# Altium footprint library 4G1.PcbLib: 32 footprints (part 2 of 2)
Each footprint in its own frame and in the unit in brackets; x right, y up, seen from the top. Pads: shape width x height; smd on the part's side, far side on the other; paste and mask are expansions set on the pad; w line width, h text height; cw(c..) or ccw(c..) is an arc to the next point about the centre after c.
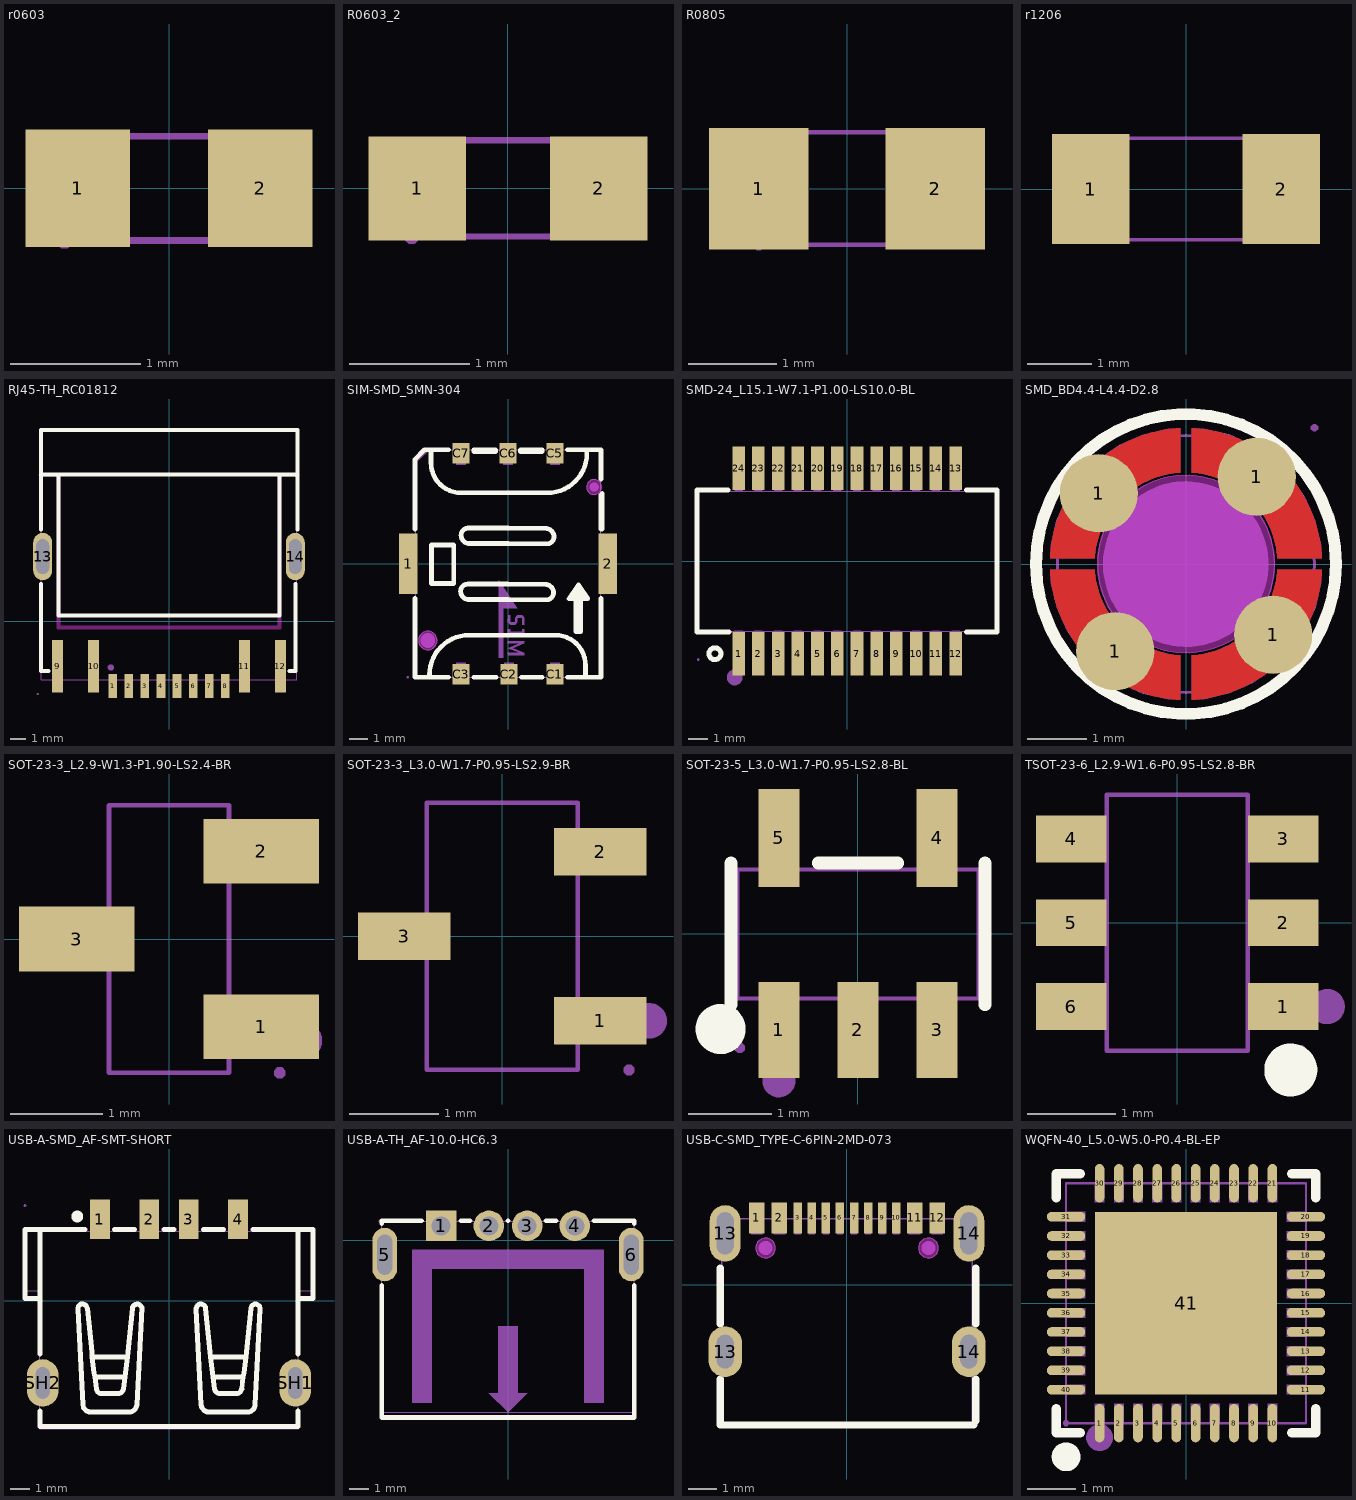
[diagram p1: the footprints below, top view; thin cyan lines are the x and y axes]

## r0603 [mm]
pads (2):
  rect 0.8x0.9 smd: 1(-0.7,0) 2(0.7,0)
Mechanical 15:
  region: 0.8,-0.4 0.8,0.4 0.5,0.4 0.5,-0.4
  region: -0.8,-0.4 -0.8,0.4 -0.5,0.4 -0.5,-0.4
  region: -0.86,-0.4 -0.86,-0.375 -0.825,-0.34 -0.775,-0.34 -0.74,-0.375 -0.74,-0.4 -0.74,-0.425 -0.775,-0.46 -0.825,-0.46 -0.86,-0.425 -0.86,-0.4
  lines w0.051: -0.8,-0.4 0.8,-0.4 0.8,0.4 -0.8,0.4 -0.8,-0.4

## R0603_2 [mm]
pads (2):
  rect 0.806x0.864 smd paste-100 mask+0.051: 1(-0.753,0) 2(0.753,0)
Top Paste:
  region: -0.355,0.4 -0.355,0.172 -0.735,0.172 -0.735,-0.158 -0.355,-0.158 -0.355,-0.4 -0.405,-0.45 -1.195,-0.45 -1.245,-0.4 -1.245,0.4 -1.195,0.45 -0.405,0.45
  region: 1.195,0.45 0.395,0.45 0.345,0.4 0.345,0.172 0.715,0.172 0.715,-0.158 0.345,-0.158 0.345,-0.4 0.395,-0.45 1.195,-0.45 1.245,-0.4 1.245,0.4
Mechanical 15:
  region: 0.8,-0.4 0.8,0.4 0.5,0.4 0.5,-0.4
  region: -0.8,-0.4 -0.8,0.4 -0.5,0.4 -0.5,-0.4
  region: -0.74,-0.4 -0.74,-0.375 -0.775,-0.34 -0.825,-0.34 -0.86,-0.375 -0.86,-0.4 -0.86,-0.425 -0.825,-0.46 -0.775,-0.46 -0.74,-0.425 -0.74,-0.4
  lines w0.051: -0.8,-0.4 0.8,-0.4 0.8,0.4 -0.8,0.4 -0.8,-0.4

## R0805 [mm]
pads (2):
  rect 1.133x1.377 smd paste-100 mask+0.051: 1(-1,0) 2(1,0)
Top Paste:
  region: 0.45,-0.64 0.45,-0.22 0.895,-0.22 0.895,0.23 0.455,0.23 0.45,0.64 0.5,0.69 1.65,0.69 1.7,0.64 1.7,-0.64 1.65,-0.69 0.5,-0.69
  region: -1.7,-0.64 -1.7,0.64 -1.65,0.69 -0.5,0.69 -0.45,0.64 -0.445,0.23 -0.895,0.23 -0.895,-0.22 -0.455,-0.22 -0.45,-0.64 -0.5,-0.69 -1.65,-0.69
Mechanical 15:
  region: 1,-0.637 1,0.637 0.6,0.637 0.6,-0.637
  region: -1,-0.637 -1,0.637 -0.6,0.637 -0.6,-0.637
  region: -0.94,-0.638 -0.94,-0.613 -0.975,-0.578 -1.025,-0.578 -1.06,-0.613 -1.06,-0.638 -1.06,-0.662 -1.025,-0.698 -0.975,-0.698 -0.94,-0.662 -0.94,-0.638
  lines w0.051: -1,-0.637 1,-0.637 1,0.637 -1,0.637 -1,-0.637

## r1206 [mm]
pads (2):
  rect 1.208x1.701 smd paste-100 mask+0.051: 1(-1.479,0) 2(1.479,0)
Top Paste:
  region: -0.875,-0.75 -0.875,-0.389 -0.975,-0.289 -1.186,-0.289 -1.286,-0.189 -1.286,0.189 -1.186,0.289 -0.975,0.289 -0.875,0.389 -0.875,0.75 -0.975,0.85 -1.983,0.85 -2.083,0.75 -2.083,-0.75 -1.983,-0.85 -0.975,-0.85
  region: 0.875,-0.75 0.875,-0.389 0.975,-0.289 1.186,-0.289 1.286,-0.189 1.286,0.189 1.186,0.289 0.975,0.289 0.875,0.389 0.875,0.75 0.975,0.85 1.983,0.85 2.083,0.75 2.083,-0.75 1.983,-0.85 0.975,-0.85
Mechanical 15:
  region: 1.55,-0.788 1.55,0.788 1.1,0.788 1.1,-0.788
  region: -1.55,-0.788 -1.55,0.788 -1.1,0.788 -1.1,-0.788
  region: -1.55,-0.847 -1.575,-0.847 -1.61,-0.812 -1.61,-0.763 -1.575,-0.727 -1.55,-0.727 -1.525,-0.727 -1.49,-0.763 -1.49,-0.812 -1.525,-0.847 -1.55,-0.847
  lines w0.051: -1.55,-0.788 1.55,-0.788 1.55,0.788 -1.55,0.788 -1.55,-0.788

## RJ45-TH_RC01812 [mm]
pads (14):
  rect 0.55x1.5 smd paste-100 mask+0.05: 1(-3.57,-4.1) 2(-2.55,-4.1) 3(-1.53,-4.1) 4(-0.51,-4.1) 5(0.51,-4.1) 6(1.53,-4.1) 7(2.55,-4.1) 8(3.57,-4.1)
  rect 0.7x3.3 smd paste-100 mask+0.05: 9(-7.06,-2.845) 10(-4.77,-2.845) 11(4.77,-2.845) 12(7.06,-2.845)
  oval 1.2x3 hole 0.8 slot 2.2 at 90 deg paste-2539.97 mask+0.05: 13(-8,4.1) 14(8,4.1)
Top Overlay:
  lines w0.254: -8.1,2.374 -8.1,-3.139 -7.641,-3.139 ; -8.1,5.826 -8.1,12.111 8.1,12.111 ; -8.1,9.284 8.128,9.284 ; -6.985,9.284 -6.985,0.381 7.007,0.381 7.007,9.284 ; 7.641,-3.139 8,-3.139 8,2.369 ; 8.128,5.823 8.128,12.111
Top Paste:
  drawing of 14 lines, arcs and shapes, not listed
Keep-Out Layer:
  lines w0.254: -6.985,-0.381 6.985,-0.381 ; -6.985,-0.381 -6.985,9.271 ; -6.985,-0.381 6.985,-0.381 ; -6.985,-0.381 -6.985,9.271 ; -6.985,9.271 -8.128,9.271 -6.985,9.271 ; 6.985,-0.381 6.985,9.271 ; 6.985,-0.381 6.985,9.271 ; 6.985,9.271 8.128,9.271 6.985,9.271
Mechanical 6:
  circle w0.2: c-3.683,-2.921 r0.1
Mechanical 15:
  region: 6.81,-1.35 7.31,-1.35 7.31,-3.35 6.81,-3.35
  region: 4.52,-1.35 5.02,-1.35 5.02,-3.35 4.52,-3.35
  region: -5.02,-1.35 -4.52,-1.35 -4.52,-3.35 -5.02,-3.35
  region: -7.31,-1.35 -6.81,-1.35 -6.81,-3.35 -7.31,-3.35
  region: 3.37,-3.6 3.77,-3.6 3.77,-4.6 3.37,-4.6
  region: 2.35,-3.6 2.75,-3.6 2.75,-4.6 2.35,-4.6
  region: 1.33,-3.6 1.73,-3.6 1.73,-4.6 1.33,-4.6
  region: 0.31,-3.6 0.71,-3.6 0.71,-4.6 0.31,-4.6
  region: -0.71,-3.6 -0.31,-3.6 -0.31,-4.6 -0.71,-4.6
  region: -1.73,-3.6 -1.33,-3.6 -1.33,-4.6 -1.73,-4.6
  region: -2.75,-3.6 -2.35,-3.6 -2.35,-4.6 -2.75,-4.6
  region: -3.77,-3.6 -3.37,-3.6 -3.37,-4.6 -3.77,-4.6
  region: -8.32,3.4 -8.32,4.8 -7.68,4.8 -7.68,3.4
  region: 7.68,3.4 7.68,4.8 8.32,4.8 8.32,3.4
  region: -8.26,-4.6 -8.26,-4.625 -8.295,-4.66 -8.345,-4.66 -8.38,-4.625 -8.38,-4.6 -8.38,-4.575 -8.345,-4.54 -8.295,-4.54 -8.26,-4.575 -8.26,-4.6
  lines w0.051: -8.1,-3.7 -8.1,12.1 8.1,12.1 8.1,-3.7 -8.1,-3.7

## SIM-SMD_SMN-304 [mm]
pads (8):
  rect 1x3.29 smd: 1(-5.39,0) 2(5.39,0)
  rect 0.9x1.1 smd: C1(2.54,-5.975) C2(0.051,-5.975) C3(-2.54,-5.975) C5(2.54,5.975) C6(0,5.975) C7(-2.54,5.975)
Top Overlay:
  region: 3.81,-1.143 3.302,-1.905 3.683,-1.905 3.683,-3.683 3.937,-3.683 3.937,-1.905 4.318,-1.905
  lines w0.254: -5.031,-1.876 -5.031,-6.149 -3.221,-6.149 ; -5.031,1.876 -5.031,5.655 -4.524,6.162 -3.221,6.162 ; -4.242,-5.999 cw(c-2.108,-5.999) -2.108,-3.866 ; -4.166,6.162 -4.166,5.456 ccw(c-2.54,5.456) -2.54,3.83 2.108,3.83 ; -2.083,-3.866 2.565,-3.866 cw(c2.565,-5.491) 4.191,-5.491 4.191,-6.101 ; -1.859,-6.149 -0.63,-6.149 ; -1.859,6.071 -0.681,6.071 ; -1.859,6.162 -0.681,6.162 ; -0.076,-1.954 2.083,-1.954 ccw(c2.083,-1.573) 2.464,-1.573 ccw(c2.006,-1.573) 2.006,-1.116 -0.076,-1.116 ; -0.051,1.075 2.108,1.075 ccw(c2.108,1.456) 2.489,1.456 ccw(c2.032,1.456) 2.032,1.913 -0.051,1.913 ; -0.025,-1.942 -2.108,-1.942 cw(c-2.108,-1.485) -2.565,-1.485 cw(c-2.184,-1.485) -2.184,-1.104 -0.025,-1.104 ; 0,1.087 -2.083,1.087 cw(c-2.083,1.544) -2.54,1.544 cw(c-2.159,1.544) -2.159,1.925 0,1.925 ; 0.681,6.071 1.859,6.071 ; 0.681,6.162 1.859,6.162 ; 0.732,-6.149 1.859,-6.149 ; 2.134,3.83 ccw(c2.134,5.964) 4.267,5.964 4.267,6.162 ; 3.221,-6.149 5.031,-6.149 5.031,-1.876 ; 3.221,6.162 5.031,6.162 5.031,4.575 ; 5.031,1.876 5.031,3.716 ; 5.105,1.871 5.105,3.794 ; -4.134,-1.069 -4.134,1.014 -2.94,1.014 -2.94,-1.069 -4.134,-1.069 ; 3.302,-1.905 3.683,-1.905 3.683,-3.683 3.937,-3.683 3.937,-1.905 4.318,-1.905 3.81,-1.143 3.302,-1.905
Keep-Out Layer:
  board cut-out: 5.06,4.145 5.06,4.066 4.999,3.919 4.887,3.806 4.74,3.745 4.58,3.745 4.433,3.806 4.321,3.919 4.26,4.066 4.26,4.145 4.26,4.225 4.321,4.372 4.433,4.484 4.58,4.545 4.74,4.545 4.887,4.484 4.999,4.372 5.06,4.225 5.06,4.145
  board cut-out: -3.84,-4.155 -3.84,-4.255 -3.916,-4.438 -4.057,-4.579 -4.241,-4.655 -4.439,-4.655 -4.623,-4.579 -4.764,-4.438 -4.84,-4.255 -4.84,-4.155 -4.84,-4.056 -4.764,-3.872 -4.623,-3.731 -4.439,-3.655 -4.241,-3.655 -4.057,-3.731 -3.916,-3.872 -3.84,-4.056 -3.84,-4.155
Keep-Out Layer:
  circle w0.005: c4.66,4.145 r0.4
  circle w0.005: c-4.34,-4.155 r0.5
  region: 5.06,4.145 5.06,4.066 4.999,3.919 4.887,3.806 4.74,3.745 4.58,3.745 4.433,3.806 4.321,3.919 4.26,4.066 4.26,4.145 4.26,4.225 4.321,4.372 4.433,4.484 4.58,4.545 4.74,4.545 4.887,4.484 4.999,4.372 5.06,4.225 5.06,4.145
  region: -3.84,-4.155 -3.84,-4.255 -3.916,-4.438 -4.057,-4.579 -4.241,-4.655 -4.439,-4.655 -4.623,-4.579 -4.764,-4.438 -4.84,-4.255 -4.84,-4.155 -4.84,-4.056 -4.764,-3.872 -4.623,-3.731 -4.439,-3.655 -4.241,-3.655 -4.057,-3.731 -3.916,-3.872 -3.84,-4.056 -3.84,-4.155
Mechanical 1:
  circle w0.005: c4.66,4.145 r0.4
  circle w0.005: c-4.34,-4.155 r0.5
Mechanical 6:
  circle w0.4: c-4.34,-4.155 r0.2
  circle w0.25: c4.66,4.145 r0.125
  region: -4.445,6.223 -5.08,5.588 -4.826,5.588 -4.191,6.223
  region: 0,-4.191 0.889,-4.191 0.889,-4.318 0.254,-4.572 0.889,-4.826 0.889,-4.953 0,-4.953 0,-4.826 0.635,-4.826 0,-4.572 0.635,-4.318 0,-4.318
  region: 0,-3.556 0.127,-3.556 0.127,-3.683 0.762,-3.683 0.762,-3.556 0.889,-3.556 0.889,-3.937 0.762,-3.937 0.762,-3.81 0.127,-3.81 0.127,-3.937 0,-3.937
  region: 0,-2.794 0,-3.175 0.127,-3.302 0.381,-3.302 0.508,-3.175 0.508,-2.921 0.762,-2.921 0.762,-3.302 0.889,-3.302 0.889,-2.921 0.762,-2.794 0.508,-2.794 0.381,-2.921 0.381,-3.175 0.254,-3.175 0.127,-3.175 0.127,-2.794
  region: -0.508,-0.889 -0.508,-5.08 -0.254,-5.08 -0.254,-2.413 0.508,-2.413
Mechanical 15:
  region: -5.425,1.25 -4.925,1.25 -4.925,-1.25 -5.425,-1.25
  region: 4.925,1.25 5.425,1.25 5.425,-1.25 4.925,-1.25
  region: 2.29,-5.35 2.79,-5.35 2.79,-6.15 2.29,-6.15
  region: -0.199,-5.35 0.301,-5.35 0.301,-6.15 -0.199,-6.15
  region: -2.79,-5.35 -2.29,-5.35 -2.29,-6.15 -2.79,-6.15
  region: -2.79,6.15 -2.29,6.15 -2.29,5.35 -2.79,5.35
  region: -0.25,6.15 0.25,6.15 0.25,5.35 -0.25,5.35
  region: 2.29,6.15 2.79,6.15 2.79,5.35 2.29,5.35
  region: -5.365,-6.15 -5.365,-6.175 -5.4,-6.21 -5.45,-6.21 -5.485,-6.175 -5.485,-6.15 -5.485,-6.125 -5.45,-6.09 -5.4,-6.09 -5.365,-6.125 -5.365,-6.15
  lines w0.051: -5.031,5.655 -4.537,6.15 5.025,6.15 5.025,-6.15 -5.025,-6.15 -5.031,5.655

## SMD-24_L15.1-W7.1-P1.00-LS10.0-BL [mm]
pads (24):
  rect 0.64x2.2 smd: 1(-5.5,-4.7) 2(-4.5,-4.7) 3(-3.5,-4.7) 4(-2.5,-4.7) 5(-1.5,-4.7) 6(-0.5,-4.7) 7(0.5,-4.7) 8(1.5,-4.7) 9(2.5,-4.7) 10(3.5,-4.7) 11(4.5,-4.7) 12(5.5,-4.7) 13(5.5,4.7) 14(4.5,4.7) 15(3.5,4.7) 16(2.5,4.7) 17(1.5,4.7) 18(0.5,4.7) 19(-0.5,4.7) 20(-1.5,4.7) 21(-2.5,4.7) 22(-3.5,4.7) 23(-4.5,4.7) 24(-5.5,4.7)
Top Overlay:
  circle w0.254: c-6.7,-4.7 r0.3
  lines w0.254: -6.051,3.6 -7.6,3.6 -7.6,-3.6 -6,-3.6 ; 6.051,-3.6 7.6,-3.6 7.6,3.6 6.051,3.6
Mechanical 6:
  circle w0.4: c-5.7,-5.9 r0.2
Mechanical 15:
  drawing of 53 lines, arcs and shapes, not listed

## SMD_BD4.4-L4.4-D2.8 [mm]
pads (4):
  round 1.32 smd: 1(-1.473,1.196) 1(-1.197,-1.473) 1(1.196,1.473) 1(1.473,-1.196)
Top Layer:
  region: 2.297,-0.096 1.547,-0.096 1.542,-0.154 1.535,-0.211 1.527,-0.268 1.516,-0.324 1.503,-0.38 1.487,-0.435 1.47,-0.49 1.451,-0.544 1.43,-0.598 1.407,-0.65 1.382,-0.702 1.355,-0.753 1.326,-0.802 1.295,-0.851 1.263,-0.898 1.229,-0.945 1.193,-0.989 1.155,-1.033 1.116,-1.075 1.075,-1.116 1.033,-1.155 0.99,-1.192 0.945,-1.228 0.899,-1.262 0.851,-1.295 0.803,-1.325 0.753,-1.354 0.702,-1.381 0.651,-1.406 0.598,-1.429 0.545,-1.451 0.491,-1.47 0.436,-1.487 0.38,-1.502 0.324,-1.515 0.268,-1.526 0.211,-1.535 0.154,-1.542 0.097,-1.546 0.097,-2.296 0.166,-2.292 0.236,-2.286 0.305,-2.278 0.374,-2.268 0.443,-2.255 0.511,-2.241 0.579,-2.224 0.646,-2.206 0.713,-2.185 0.778,-2.162 0.844,-2.138 0.908,-2.111 0.972,-2.083 1.035,-2.052 1.096,-2.02 1.157,-1.986 1.217,-1.95 1.275,-1.912 1.333,-1.872 1.389,-1.831 1.444,-1.788 1.497,-1.743 1.55,-1.697 1.6,-1.649 1.65,-1.6 1.698,-1.549 1.744,-1.497 1.788,-1.444 1.831,-1.389 1.873,-1.332 1.912,-1.275 1.95,-1.216 1.986,-1.157 2.02,-1.096 2.053,-1.034 2.083,-0.971 2.112,-0.908 2.138,-0.843 2.163,-0.778 2.186,-0.712 2.206,-0.646 2.225,-0.578 2.241,-0.511 2.256,-0.442 2.268,-0.374 2.279,-0.305 2.287,-0.236 2.293,-0.166
  region: -2.297,0.096 -1.547,0.096 -1.542,0.154 -1.535,0.211 -1.527,0.268 -1.516,0.324 -1.503,0.38 -1.487,0.435 -1.47,0.49 -1.451,0.544 -1.43,0.598 -1.407,0.65 -1.382,0.702 -1.355,0.753 -1.326,0.802 -1.295,0.851 -1.263,0.898 -1.229,0.945 -1.193,0.989 -1.155,1.033 -1.116,1.075 -1.076,1.116 -1.033,1.155 -0.99,1.192 -0.945,1.228 -0.899,1.262 -0.851,1.295 -0.803,1.325 -0.753,1.354 -0.702,1.381 -0.651,1.406 -0.598,1.429 -0.545,1.451 -0.491,1.47 -0.436,1.487 -0.38,1.502 -0.324,1.515 -0.268,1.526 -0.211,1.535 -0.154,1.542 -0.097,1.546 -0.097,2.296 -0.167,2.292 -0.236,2.286 -0.305,2.278 -0.374,2.268 -0.443,2.255 -0.511,2.241 -0.579,2.224 -0.646,2.206 -0.713,2.185 -0.779,2.162 -0.844,2.138 -0.908,2.111 -0.972,2.083 -1.035,2.052 -1.096,2.02 -1.157,1.986 -1.217,1.95 -1.275,1.912 -1.333,1.872 -1.389,1.831 -1.444,1.788 -1.498,1.743 -1.55,1.697 -1.601,1.649 -1.65,1.6 -1.698,1.549 -1.744,1.497 -1.789,1.444 -1.831,1.389 -1.873,1.332 -1.912,1.275 -1.95,1.216 -1.986,1.157 -2.02,1.096 -2.053,1.034 -2.083,0.971 -2.112,0.908 -2.138,0.843 -2.163,0.778 -2.186,0.712 -2.206,0.646 -2.225,0.578 -2.241,0.511 -2.256,0.442 -2.268,0.374 -2.279,0.305 -2.287,0.236 -2.293,0.166
  region: -0.097,-2.297 -0.097,-1.547 -0.154,-1.542 -0.211,-1.535 -0.268,-1.527 -0.324,-1.516 -0.38,-1.503 -0.435,-1.487 -0.49,-1.47 -0.544,-1.451 -0.598,-1.43 -0.65,-1.407 -0.702,-1.382 -0.753,-1.355 -0.802,-1.326 -0.851,-1.295 -0.898,-1.263 -0.945,-1.229 -0.989,-1.193 -1.033,-1.155 -1.075,-1.116 -1.116,-1.075 -1.155,-1.033 -1.192,-0.99 -1.228,-0.945 -1.262,-0.899 -1.295,-0.851 -1.325,-0.803 -1.354,-0.753 -1.381,-0.702 -1.406,-0.651 -1.43,-0.598 -1.451,-0.545 -1.47,-0.491 -1.487,-0.436 -1.502,-0.38 -1.515,-0.324 -1.526,-0.268 -1.535,-0.211 -1.542,-0.154 -1.547,-0.097 -2.297,-0.097 -2.293,-0.167 -2.286,-0.236 -2.278,-0.305 -2.268,-0.374 -2.255,-0.443 -2.241,-0.511 -2.224,-0.579 -2.206,-0.646 -2.185,-0.713 -2.163,-0.779 -2.138,-0.844 -2.111,-0.908 -2.083,-0.972 -2.052,-1.035 -2.02,-1.096 -1.986,-1.157 -1.95,-1.217 -1.912,-1.275 -1.872,-1.333 -1.831,-1.389 -1.788,-1.444 -1.743,-1.498 -1.697,-1.55 -1.649,-1.601 -1.6,-1.65 -1.549,-1.698 -1.497,-1.744 -1.444,-1.788 -1.389,-1.831 -1.332,-1.873 -1.275,-1.912 -1.216,-1.95 -1.157,-1.986 -1.096,-2.02 -1.034,-2.053 -0.971,-2.083 -0.908,-2.112 -0.843,-2.138 -0.778,-2.163 -0.712,-2.186 -0.646,-2.206 -0.578,-2.225 -0.511,-2.241 -0.442,-2.256 -0.374,-2.268 -0.305,-2.279 -0.236,-2.287 -0.166,-2.293
  region: 0.096,2.297 0.096,1.547 0.154,1.542 0.211,1.535 0.267,1.527 0.324,1.516 0.38,1.503 0.435,1.487 0.49,1.47 0.544,1.451 0.598,1.43 0.65,1.407 0.702,1.382 0.753,1.355 0.802,1.326 0.851,1.295 0.898,1.263 0.944,1.229 0.989,1.193 1.033,1.155 1.075,1.116 1.116,1.075 1.155,1.033 1.192,0.99 1.228,0.945 1.262,0.899 1.295,0.851 1.325,0.803 1.354,0.753 1.381,0.702 1.406,0.651 1.429,0.598 1.451,0.545 1.47,0.491 1.487,0.436 1.502,0.38 1.515,0.324 1.526,0.268 1.535,0.211 1.542,0.154 1.546,0.097 2.296,0.097 2.292,0.167 2.286,0.236 2.278,0.305 2.268,0.374 2.255,0.443 2.241,0.511 2.224,0.579 2.206,0.646 2.185,0.713 2.162,0.779 2.138,0.844 2.111,0.908 2.083,0.972 2.052,1.035 2.02,1.096 1.986,1.157 1.95,1.217 1.912,1.275 1.872,1.333 1.831,1.389 1.788,1.444 1.743,1.498 1.697,1.55 1.649,1.601 1.6,1.65 1.549,1.698 1.497,1.744 1.443,1.788 1.389,1.831 1.332,1.873 1.275,1.912 1.216,1.95 1.157,1.986 1.096,2.02 1.034,2.053 0.971,2.083 0.908,2.112 0.843,2.138 0.778,2.163 0.712,2.186 0.645,2.206 0.578,2.225 0.51,2.241 0.442,2.256 0.374,2.268 0.305,2.279 0.235,2.287 0.166,2.293
Top Overlay:
  circle w0.2: c0,0 r2.537
Keep-Out Layer:
  board cut-out: -1.5,0 -1.5,-0.148 -1.442,-0.438 -1.329,-0.711 -1.165,-0.956 -0.956,-1.165 -0.711,-1.329 -0.438,-1.442 -0.148,-1.5 0.148,-1.5 0.437,-1.442 0.71,-1.329 0.956,-1.165 1.165,-0.956 1.329,-0.711 1.442,-0.438 1.5,-0.148 1.5,0 1.5,0.148 1.442,0.438 1.329,0.711 1.165,0.956 0.956,1.165 0.71,1.329 0.437,1.442 0.148,1.5 -0.148,1.5 -0.438,1.442 -0.711,1.329 -0.956,1.165 -1.165,0.956 -1.329,0.711 -1.442,0.438 -1.5,0.148 -1.5,0
Keep-Out Layer:
  circle w0.005: c0,0 r1.5
  region: -1.5,0 -1.5,-0.148 -1.442,-0.438 -1.329,-0.711 -1.165,-0.956 -0.956,-1.165 -0.711,-1.329 -0.438,-1.442 -0.148,-1.5 0.148,-1.5 0.437,-1.442 0.71,-1.329 0.956,-1.165 1.165,-0.956 1.329,-0.711 1.442,-0.438 1.5,-0.148 1.5,0 1.5,0.148 1.442,0.438 1.329,0.711 1.165,0.956 0.956,1.165 0.71,1.329 0.437,1.442 0.148,1.5 -0.148,1.5 -0.438,1.442 -0.711,1.329 -0.956,1.165 -1.165,0.956 -1.329,0.711 -1.442,0.438 -1.5,0.148 -1.5,0
Mechanical 1:
  circle w0.005: c0,0 r1.5
Mechanical 6:
  circle w1.4: c-0.004,-0.003 r0.7
Mechanical 15:
  region: 2.297,-0.096 1.547,-0.096 1.532,-0.235 1.464,-0.507 1.349,-0.762 1.19,-0.992 0.993,-1.19 0.762,-1.349 0.508,-1.464 0.236,-1.531 0.097,-1.546 0.097,-2.296 0.311,-2.287 0.728,-2.19 1.12,-2.018 1.474,-1.776 1.777,-1.473 2.019,-1.12 2.191,-0.728 2.288,-0.31 2.297,-0.096
  region: -0.096,-2.297 -0.096,-1.547 -0.236,-1.532 -0.507,-1.465 -0.762,-1.349 -0.992,-1.19 -1.19,-0.993 -1.349,-0.763 -1.464,-0.508 -1.531,-0.236 -1.546,-0.097 -2.296,-0.097 -2.287,-0.311 -2.19,-0.728 -2.018,-1.12 -1.776,-1.474 -1.473,-1.777 -1.12,-2.019 -0.728,-2.191 -0.31,-2.288 -0.096,-2.297
  region: -2.297,0.096 -1.547,0.096 -1.532,0.235 -1.465,0.507 -1.349,0.762 -1.19,0.992 -0.993,1.19 -0.763,1.349 -0.508,1.464 -0.236,1.531 -0.097,1.546 -0.097,2.296 -0.311,2.287 -0.728,2.19 -1.12,2.018 -1.474,1.776 -1.777,1.473 -2.019,1.12 -2.191,0.728 -2.288,0.31 -2.297,0.096
  region: 0.096,2.297 0.096,1.547 0.235,1.532 0.507,1.465 0.762,1.349 0.992,1.19 1.19,0.993 1.349,0.763 1.464,0.508 1.531,0.236 1.546,0.097 2.296,0.097 2.287,0.311 2.19,0.728 2.018,1.12 1.776,1.474 1.473,1.777 1.12,2.019 0.727,2.191 0.31,2.288 0.096,2.297
  region: 2.114,2.306 2.114,2.281 2.149,2.246 2.199,2.246 2.234,2.281 2.234,2.306 2.234,2.331 2.199,2.366 2.149,2.366 2.114,2.331 2.114,2.306
  lines w0.051: 0,-2.177 ccw(c0,-0.004) 2.174,-0.004 2.174,0 ccw(c0,0) 0,2.174 -0.001,2.175 ccw(c-0.001,-0.001) -2.176,-0.001 ccw(c0,-0.001) 0,-2.177 ; 0,-2.177 0,-2.177

## SOT-23-3_L2.9-W1.3-P1.90-LS2.4-BR [mm]
pads (3):
  rect 1.25x0.7 smd: 1(1,-0.95) 2(1,0.95) 3(-1,0)
Mechanical 6:
  circle w0.2: c1.46,-1.1 r0.1
Mechanical 15:
  region: 0.9,0.735 0.9,1.165 1.2,1.165 1.2,0.735
  region: 0.9,-1.165 0.9,-0.735 1.2,-0.735 1.2,-1.165
  region: 0.64,-1.165 0.64,-0.735 0.91,-0.735 0.91,-1.165
  region: 0.64,0.735 0.64,1.165 0.91,1.165 0.91,0.735
  region: -0.91,-0.215 -0.91,0.215 -0.64,0.215 -0.64,-0.215
  region: -1.2,-0.215 -1.2,0.215 -0.9,0.215 -0.9,-0.215
  region: 1.2,-1.39 1.225,-1.39 1.26,-1.425 1.26,-1.475 1.225,-1.51 1.2,-1.51 1.175,-1.51 1.14,-1.475 1.14,-1.425 1.175,-1.39 1.2,-1.39
  lines w0.051: -0.65,-1.45 0.65,-1.45 0.65,1.45 -0.65,1.45 -0.65,-1.45

## SOT-23-3_L3.0-W1.7-P0.95-LS2.9-BR [mm]
pads (3):
  rect 1.037x0.532 smd: 1(1.101,-0.95) 2(1.101,0.95) 3(-1.101,0)
Mechanical 6:
  circle w0.2: c1.65,-0.95 r0.1
Mechanical 15:
  region: 1,0.762 1,1.137 1.425,1.137 1.425,0.762
  region: 1,-1.137 1,-0.762 1.425,-0.762 1.425,-1.137
  region: 0.815,-1.137 0.815,-0.762 1.01,-0.762 1.01,-1.137
  region: 0.815,0.762 0.815,1.137 1.01,1.137 1.01,0.762
  region: -1.01,-0.188 -1.01,0.188 -0.815,0.188 -0.815,-0.188
  region: -1.425,-0.188 -1.425,0.188 -1,0.188 -1,-0.188
  region: 1.425,-1.44 1.45,-1.44 1.485,-1.475 1.485,-1.525 1.45,-1.56 1.425,-1.56 1.4,-1.56 1.365,-1.525 1.365,-1.475 1.4,-1.44 1.425,-1.44
  lines w0.051: -0.85,-1.5 -0.85,1.5 0.85,1.5 0.85,-1.5 -0.85,-1.5

## SOT-23-5_L3.0-W1.7-P0.95-LS2.8-BL [mm]
pads (5):
  rect 0.49x1.157 smd: 1(-0.95,-1.154) 2(0,-1.154) 3(0.95,-1.154)
  rect 0.49x1.175 smd: 4(0.95,1.154) 5(-0.95,1.154)
Top Overlay:
  circle w0.3: c-1.651,-1.143 r0.15
  lines w0.152: -1.526,-0.851 -1.526,0.851 ; -0.476,0.851 0.476,0.851 ; 1.526,-0.851 1.526,0.851
Mechanical 6:
  circle w0.2: c-0.95,-1.763 r0.1
Mechanical 15:
  region: -1.42,-1.43 -1.395,-1.43 -1.36,-1.395 -1.36,-1.345 -1.395,-1.31 -1.42,-1.31 -1.445,-1.31 -1.48,-1.345 -1.48,-1.395 -1.445,-1.43 -1.42,-1.43
  region: -1.125,0.74 -1.125,1.01 -0.775,1.01 -0.775,0.74
  region: -1.125,-1.01 -1.125,-0.74 -0.775,-0.74 -0.775,-1.01
  region: -1.125,1 -1.125,1.4 -0.775,1.4 -0.775,1
  region: -1.125,-1.4 -1.125,-1 -0.775,-1 -0.775,-1.4
  region: -0.175,-1.01 -0.175,-0.74 0.175,-0.74 0.175,-1.01
  region: -0.175,-1.4 -0.175,-1 0.175,-1 0.175,-1.4
  region: 0.775,1 0.775,1.4 1.125,1.4 1.125,1
  region: 0.775,-1.01 0.775,-0.74 1.125,-0.74 1.125,-1.01
  region: 0.775,0.74 0.775,1.01 1.125,1.01 1.125,0.74
  region: 0.775,-1.4 0.775,-1 1.125,-1 1.125,-1.4
  lines w0.051: -1.45,-0.775 1.45,-0.775 1.45,0.775 -1.45,0.775 -1.45,-0.775

## TSOT-23-6_L2.9-W1.6-P0.95-LS2.8-BR [mm]
pads (6):
  rect 0.8x0.532 smd: 1(1.2,-0.95) 2(1.2,0) 3(1.2,0.95) 4(-1.2,0.95) 5(-1.2,0) 6(-1.2,-0.95)
Top Overlay:
  circle w0.3: c1.287,-1.669 r0.15
Mechanical 6:
  circle w0.2: c1.7,-0.95 r0.1
Mechanical 15:
  region: 1.34,-1.45 1.34,-1.475 1.375,-1.51 1.425,-1.51 1.46,-1.475 1.46,-1.45 1.46,-1.425 1.425,-1.39 1.375,-1.39 1.34,-1.425 1.34,-1.45
  region: -0.95,0.75 -0.95,1.15 -1.4,1.15 -1.4,0.75
  region: -0.95,-1.15 -0.95,-0.75 -1.4,-0.75 -1.4,-1.15
  region: -0.95,-0.2 -0.95,0.2 -1.4,0.2 -1.4,-0.2
  region: -0.96,-0.2 -0.96,0.2 -0.79,0.2 -0.79,-0.2
  region: -0.96,-1.15 -0.96,-0.75 -0.79,-0.75 -0.79,-1.15
  region: -0.96,0.75 -0.96,1.15 -0.79,1.15 -0.79,0.75
  region: 0.79,0.75 0.79,1.15 0.96,1.15 0.96,0.75
  region: 0.79,-0.2 0.79,0.2 0.96,0.2 0.96,-0.2
  region: 0.79,-1.15 0.79,-0.75 0.96,-0.75 0.96,-1.15
  region: 0.95,-0.2 0.95,0.2 1.4,0.2 1.4,-0.2
  region: 0.95,-1.15 0.95,-0.75 1.4,-0.75 1.4,-1.15
  region: 0.95,0.75 0.95,1.15 1.4,1.15 1.4,0.75
  lines w0.051: -0.8,-1.45 -0.8,1.45 0.8,1.45 0.8,-1.45 -0.8,-1.45

## USB-A-SMD_AF-SMT-SHORT [mm]
pads (6):
  rect 1x2 smd paste-100 mask+0.051: 1(-3.5,4.15) 2(-1,4.15) 3(1,4.15) 4(3.5,4.15)
  oval 1.6x2.4 hole 0.7 slot 1.6 at 90 deg copper offset 0.001,0: SH1(6.399,-4.15)
  oval 1.6x2.4 hole 0.7 slot 1.6 at 90 deg copper offset -0.001,0: SH2(-6.399,-4.15)
Top Overlay:
  circle w0.3: c-4.645,4.28 r0.15
  lines w0.254: -6.545,-5.571 -6.545,-6.371 6.544,-6.371 6.544,-5.571 ; -6.545,-2.676 -6.545,3.624 ; -6.545,0.123 -7.292,0.123 -7.292,3.624 -4.25,3.624 ; -4.58,-0.265 -4.621,-0.406 -4.368,-5.254 -4.321,-5.418 -4.209,-5.548 -4.05,-5.624 -1.945,-5.624 -1.88,-5.601 -1.818,-5.57 -1.765,-5.533 -1.727,-5.495 -1.69,-5.445 -1.662,-5.391 -1.642,-5.331 -1.628,-5.259 ; -4.577,-0.26 -4.537,-0.215 -4.497,-0.185 -4.451,-0.164 -4.4,-0.154 -4.351,-0.157 -4.299,-0.172 -4.247,-0.201 -4.197,-0.241 -4.139,-0.376 -3.909,-2.583 -3.892,-2.83 ; -2.75,3.624 -1.75,3.624 ; -1.739,-0.194 -1.798,-0.241 -1.839,-0.306 -1.856,-0.376 -2.086,-2.583 -2.103,-2.83 ; -1.734,-0.191 -1.684,-0.167 -1.631,-0.155 -1.58,-0.155 -1.531,-0.168 -1.483,-0.194 -1.444,-0.229 -1.406,-0.279 -1.38,-0.335 -1.627,-5.254 ; -0.25,3.624 0,3.624 0.25,3.624 ; 1.415,-0.265 1.373,-0.406 1.626,-5.254 1.673,-5.418 1.785,-5.548 1.944,-5.624 4.056,-5.624 4.119,-5.603 4.178,-5.571 4.228,-5.533 4.276,-5.485 4.315,-5.429 4.343,-5.373 4.361,-5.315 4.368,-5.259 ; 1.417,-0.261 1.451,-0.223 1.489,-0.191 1.525,-0.17 1.567,-0.157 1.604,-0.154 1.65,-0.158 1.698,-0.173 1.744,-0.194 1.797,-0.241 1.838,-0.306 1.856,-0.376 2.085,-2.583 2.103,-2.83 ; 1.75,3.624 2.75,3.624 ; 4.25,3.624 7.297,3.624 7.297,0.123 6.544,0.123 ; 4.368,-5.254 4.621,-0.406 4.585,-0.265 4.468,-0.171 4.397,-0.153 4.321,-0.165 4.197,-0.241 4.144,-0.376 3.915,-2.583 3.891,-2.83 ; 6.544,-2.676 6.544,3.624 ; -3.892,-2.83 -2.103,-2.83 ; -3.892,-2.83 -3.792,-3.653 -3.756,-3.853 ; -3.756,-3.853 -2.239,-3.853 ; -3.756,-3.853 -3.68,-4.459 -3.656,-4.542 -3.609,-4.606 -3.544,-4.659 -3.468,-4.689 -3.386,-4.694 -2.609,-4.694 -2.527,-4.689 -2.451,-4.659 -2.386,-4.606 -2.339,-4.542 -2.315,-4.459 -2.239,-3.853 ; -2.239,-3.853 -2.203,-3.653 -2.103,-2.83 ; 2.103,-2.83 3.891,-2.83 ; 2.103,-2.83 2.203,-3.653 2.238,-3.853 ; 2.238,-3.853 3.756,-3.853 ; 2.238,-3.853 2.315,-4.459 2.338,-4.542 2.391,-4.606 2.456,-4.659 2.532,-4.689 2.615,-4.694 3.385,-4.694 3.468,-4.689 3.544,-4.659 3.609,-4.606 3.656,-4.542 3.685,-4.459 3.756,-3.853 ; 3.756,-3.853 3.791,-3.653 3.891,-2.83
Top Paste:
  region: -3,5.15 -3,3.15 -4,3.15 -4,5.15
  region: -0.5,5.15 -0.5,3.15 -1.5,3.15 -1.5,5.15
  region: 1.5,5.15 1.5,3.15 0.5,3.15 0.5,5.15
  region: 4,5.15 4,3.15 3,3.15 3,5.15
  region: -7.2,-3.75 -7.2,-3.645 -7.145,-3.441 -7.04,-3.259 -6.891,-3.11 -6.709,-3.005 -6.505,-2.95 -6.295,-2.95 -6.091,-3.005 -5.909,-3.11 -5.76,-3.259 -5.654,-3.441 -5.6,-3.645 -5.6,-3.75 -5.6,-4.55 -5.6,-4.655 -5.654,-4.859 -5.76,-5.041 -5.909,-5.19 -6.091,-5.296 -6.295,-5.35 -6.505,-5.35 -6.709,-5.296 -6.891,-5.19 -7.04,-5.041 -7.145,-4.859 -7.2,-4.655 -7.2,-4.55
  region: 7.2,-4.55 7.2,-4.655 7.146,-4.859 7.04,-5.041 6.891,-5.19 6.709,-5.296 6.505,-5.35 6.295,-5.35 6.091,-5.296 5.909,-5.19 5.76,-5.041 5.655,-4.859 5.6,-4.655 5.6,-4.55 5.6,-3.75 5.6,-3.645 5.655,-3.441 5.76,-3.259 5.909,-3.11 6.091,-3.005 6.295,-2.95 6.505,-2.95 6.709,-3.005 6.891,-3.11 7.04,-3.259 7.146,-3.441 7.2,-3.645 7.2,-3.75
Mechanical 6:
  circle w0.3: c-3.505,4.195 r0.15
Mechanical 15:
  region: 3.2,3.33 3.2,4.83 3.8,4.83 3.8,3.33
  region: 0.7,3.33 0.7,4.83 1.3,4.83 1.3,3.33
  region: -1.3,3.33 -1.3,4.83 -0.7,4.83 -0.7,3.33
  region: -3.8,3.33 -3.8,4.83 -3.2,4.83 -3.2,3.33
  region: -6.55,-4.75 -6.55,-3.55 -6.25,-3.55 -6.25,-4.75
  region: 6.55,-3.55 6.55,-4.75 6.25,-4.75 6.25,-3.55
  region: -7.3,4.89 -7.275,4.89 -7.24,4.855 -7.24,4.805 -7.275,4.77 -7.3,4.77 -7.325,4.77 -7.36,4.805 -7.36,4.855 -7.325,4.89 -7.3,4.89
  lines w0.051: -7.3,0.53 -7.3,3.53 7.3,3.53 7.3,0.53 6.55,0.53 6.55,-6.47 -6.55,-6.47 -6.55,0.53 -7.3,0.53

## USB-A-TH_AF-10.0-HC6.3 [mm]
pads (6):
  rect 1.6x1.6 hole 1 paste-2539.97 mask+0.05: 1(-3.5,0.75)
  round 1.6 hole 1 paste-2539.97 mask+0.05: 2(-1,0.75) 3(1,0.75) 4(3.5,0.75)
  oval 1.3x2.8 hole 0.8 slot 2.1 at 90 deg paste-2539.97 mask+0.05: 5(-6.45,-0.75) 6(6.45,-0.75)
Top Overlay:
  lines w0.254: -6.604,-2.367 -6.604,-9.271 6.604,-9.271 6.604,-2.367 ; -6.604,0.868 -6.604,1.016 -4.531,1.016 ; -2.469,1.016 -1.996,1.016 ; -0.004,1.016 0.004,1.016 ; 1.996,1.016 2.504,1.016 ; 4.496,1.016 6.604,1.016 6.604,0.868
Mechanical 6:
  region: -5,-8.5 -5,-0.5 -4,-0.5 -4,-8.5
  region: 5,-8.5 5,-0.5 4,-0.5 4,-8.5
  region: -4,-0.5 4,-0.5 4,-1.5 -4,-1.5
  region: -1,-8 1,-8 0,-9
  region: 0,-8 -0.5,-8 -0.5,-4.5 0.5,-4.5 0.5,-8
Mechanical 15:
  region: -3.25,0.6 -3.75,0.6 -3.75,0.9 -3.25,0.9
  region: -0.75,0.6 -1.25,0.6 -1.25,0.9 -0.75,0.9
  region: 1.25,0.6 0.75,0.6 0.75,0.9 1.25,0.9
  region: 3.75,0.6 3.25,0.6 3.25,0.9 3.75,0.9
  region: -6.2,-1.25 -6.7,-1.25 -6.7,-0.25 -6.2,-0.25
  region: 6.7,-1.25 6.2,-1.25 6.2,-0.25 6.7,-0.25
  region: -6.7,0.94 -6.725,0.94 -6.76,0.975 -6.76,1.025 -6.725,1.06 -6.7,1.06 -6.675,1.06 -6.64,1.025 -6.64,0.975 -6.675,0.94 -6.7,0.94
  lines w0.051: -6.6,-9 -6.6,1 6.6,1 6.6,-9 -6.6,-9

## USB-C-SMD_TYPE-C-6PIN-2MD-073 [mm]
pads (16):
  rect 0.55x1.1 smd paste-100 mask+0.05: 1(-3.2,2.375) 2(-2.4,2.375) 11(2.4,2.375) 12(3.2,2.375)
  rect 0.3x1.1 smd paste-100 mask+0.05: 3(-1.75,2.375) 4(-1.25,2.375) 5(-0.75,2.375) 6(-0.25,2.375) 7(0.25,2.375) 8(0.75,2.375) 9(1.25,2.375) 10(1.75,2.375)
  oval 1.2x1.8 hole 0.6 slot 1.2 at 90 deg paste-2539.97 mask+0.05: 13(-4.325,-2.375) 14(4.325,-2.375)
  oval 1.1x2 hole 0.6 slot 1.5 at 90 deg paste-2539.97 mask+0.05: 13(-4.325,1.825) 14(4.325,1.825)
Top Overlay:
  lines w0.254: -4.5,-3.356 -4.5,-4.975 4.5,-4.975 ; -4.5,-1.394 -4.5,0.594 ; 4.572,-4.826 4.572,-3.353 ; 4.572,-1.397 4.572,0.597
Top Paste:
  drawing of 16 lines, arcs and shapes, not listed
Keep-Out Layer:
  board cut-out: 2.89,1.655 2.96,1.655 3.088,1.602 3.187,1.503 3.24,1.375 3.24,1.235 3.187,1.107 3.088,1.008 2.96,0.955 2.89,0.955 2.821,0.955 2.692,1.008 2.593,1.107 2.54,1.235 2.54,1.375 2.593,1.503 2.692,1.602 2.821,1.655 2.89,1.655
  board cut-out: -2.89,1.655 -2.82,1.655 -2.692,1.602 -2.593,1.503 -2.54,1.375 -2.54,1.235 -2.593,1.107 -2.692,1.008 -2.82,0.955 -2.89,0.955 -2.96,0.955 -3.088,1.008 -3.187,1.107 -3.24,1.235 -3.24,1.375 -3.187,1.503 -3.088,1.602 -2.96,1.655 -2.89,1.655
Keep-Out Layer:
  circle w0.005: c2.89,1.305 r0.35
  circle w0.005: c-2.89,1.305 r0.35
  region: 2.89,1.655 2.96,1.655 3.088,1.602 3.187,1.503 3.24,1.375 3.24,1.235 3.187,1.107 3.088,1.008 2.96,0.955 2.89,0.955 2.821,0.955 2.692,1.008 2.593,1.107 2.54,1.235 2.54,1.375 2.593,1.503 2.692,1.602 2.821,1.655 2.89,1.655
  region: -2.89,1.655 -2.82,1.655 -2.692,1.602 -2.593,1.503 -2.54,1.375 -2.54,1.235 -2.593,1.107 -2.692,1.008 -2.82,0.955 -2.89,0.955 -2.96,0.955 -3.088,1.008 -3.187,1.107 -3.24,1.235 -3.24,1.375 -3.187,1.503 -3.088,1.602 -2.96,1.655 -2.89,1.655
Mechanical 1:
  circle w0.005: c2.89,1.305 r0.35
  circle w0.005: c-2.89,1.305 r0.35
Mechanical 6:
  circle w0.25: c2.89,1.305 r0.125
  circle w0.25: c-2.89,1.305 r0.125
Mechanical 15:
  region: 4.2,-2.025 4.45,-2.025 4.45,-2.725 4.2,-2.725
  region: -4.45,-2.025 -4.2,-2.025 -4.2,-2.725 -4.45,-2.725
  region: 4.2,2.349 4.45,2.349 4.45,1.249 4.2,1.249
  region: -4.45,2.349 -4.2,2.349 -4.2,1.249 -4.45,1.249
  region: 3,2.649 3.4,2.649 3.4,1.799 3,1.799
  region: 2.2,2.649 2.6,2.649 2.6,1.799 2.2,1.799
  region: -2.6,2.649 -2.2,2.649 -2.2,1.799 -2.6,1.799
  region: -3.4,2.649 -3,2.649 -3,1.799 -3.4,1.799
  region: 1.65,2.649 1.85,2.649 1.85,1.799 1.65,1.799
  region: 1.15,2.649 1.35,2.649 1.35,1.799 1.15,1.799
  region: 0.65,2.649 0.85,2.649 0.85,1.799 0.65,1.799
  region: 0.15,2.649 0.35,2.649 0.35,1.799 0.15,1.799
  region: -0.35,2.649 -0.15,2.649 -0.15,1.799 -0.35,1.799
  region: -1.35,2.649 -1.15,2.649 -1.15,1.799 -1.35,1.799
  region: -0.85,2.649 -0.65,2.649 -0.65,1.799 -0.85,1.799
  region: -1.85,2.649 -1.65,2.649 -1.65,1.799 -1.85,1.799
  region: -4.45,2.709 -4.425,2.709 -4.39,2.674 -4.39,2.624 -4.425,2.589 -4.45,2.589 -4.475,2.589 -4.51,2.624 -4.51,2.674 -4.475,2.709 -4.45,2.709
  lines w0.051: -4.45,-5.001 4.45,-5.001 4.45,2.349 -4.45,2.349 -4.45,-5.001

## WQFN-40_L5.0-W5.0-P0.4-BL-EP [mm]
pads (41):
  oval 0.2x0.8 smd paste-100 mask+0.051: 1(-1.801,-2.499) 2(-1.4,-2.499) 3(-1.001,-2.499) 4(-0.599,-2.499) 5(-0.201,-2.499) 6(0.201,-2.499) 7(0.599,-2.499) 8(1.001,-2.499) 9(1.4,-2.499) 10(1.801,-2.499) 21(1.801,2.499) 22(1.4,2.499) 23(1.001,2.499) 24(0.599,2.499) 25(0.201,2.499) 26(-0.201,2.499) 27(-0.599,2.499) 28(-1.001,2.499) 29(-1.4,2.499) 30(-1.801,2.499)
  oval 0.8x0.2 smd paste-100 mask+0.051: 11(2.499,-1.801) 12(2.499,-1.4) 13(2.499,-1.001) 14(2.499,-0.599) 15(2.499,-0.201) 16(2.499,0.201) 17(2.499,0.599) 18(2.499,1.001) 19(2.499,1.4) 20(2.499,1.801) 31(-2.499,1.801) 32(-2.499,1.4) 33(-2.499,1.001) 34(-2.499,0.599) 35(-2.499,0.201) 36(-2.499,-0.201) 37(-2.499,-0.599) 38(-2.499,-1.001) 39(-2.499,-1.4) 40(-2.499,-1.801)
  rect 3.8x3.8 smd paste-100 mask+0.051: 41(0,0)
Top Overlay:
  lines w0.2: -2.7,-2.2 -2.7,-2.7 -2.2,-2.7 ; -2.7,2.2 -2.7,2.7 -2.2,2.7 ; 2.2,-2.7 2.7,-2.7 2.7,-2.2 ; 2.2,2.7 2.7,2.7 2.7,2.2
  lines w0.3: -2.499,-3.051 ccw(c-2.498,-3.201) -2.497,-3.051
Top Paste:
  drawing of 41 lines, arcs and shapes, not listed
Mechanical 6:
  circle w0.28: c-1.8,-2.8 r0.14
Mechanical 15:
  drawing of 46 lines, arcs and shapes, not listed